# Altium footprint library MOLEX_449140401.PcbLib: 1 footprints
Each footprint in its own frame and in the unit in brackets; x right, y up, seen from the top. Pads: shape width x height; smd on the part's side, far side on the other; paste and mask are expansions set on the pad; w line width, h text height; cw(c..) or ccw(c..) is an arc to the next point about the centre after c.
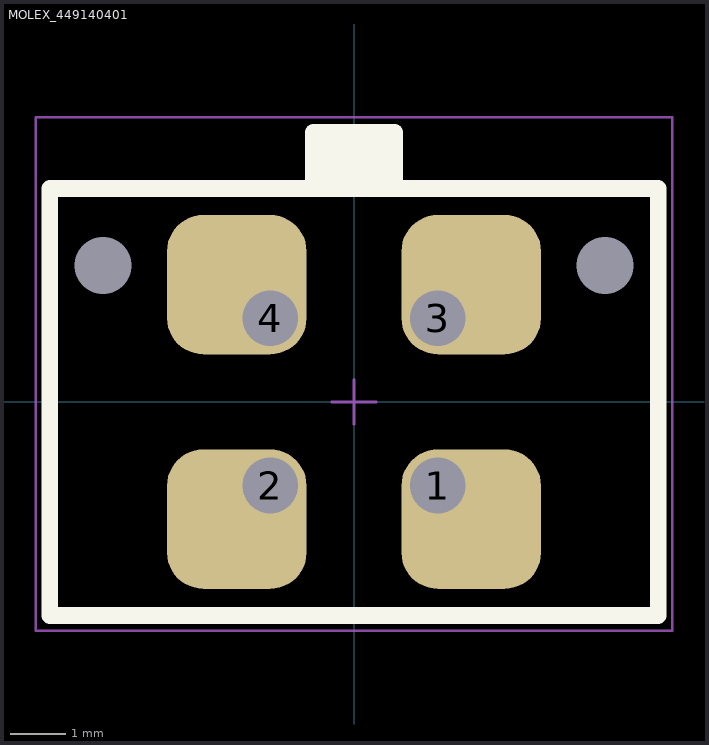
[diagram p0: the footprint, top view; thin cyan lines are the x and y axes]

## MOLEX_449140401 [mm] "MOLEX_449140401"
height 10.16
pads (6):
  rrect52% 2.5x2.5 hole 1 copper offset 0.6,-0.6: 1(1.5,-1.5)
  rrect52% 2.5x2.5 hole 1 copper offset -0.6,-0.6: 2(-1.5,-1.5)
  rrect52% 2.5x2.5 hole 1 copper offset 0.6,0.6: 3(1.5,1.5)
  rrect52% 2.5x2.5 hole 1 copper offset -0.6,0.6: 4(-1.5,1.5)
  round 0 hole 1.02 unplated: ""(-4.5,2.44) ""(4.5,2.44)
Top Overlay:
  rectangle: -0.729,3.825 0.729,4.83
  lines w0.3: -0.729,3.825 -0.729,4.83 0,4.83 0.729,4.83 0.729,3.825 ; -5.45,-3.825 -5.45,3.825 5.45,3.825 5.45,-3.825 -5.45,-3.825
Mechanical 13:
  lines w0.1: -5.45,-3.825 5.45,-3.825 5.45,3.825 -5.45,3.825 -5.45,-3.825
Mechanical 15:
  lines w0.05: -0.4,0 0.4,0 ; 0,-0.4 0,0.4 ; -5.7,-4.1 5.7,-4.1 5.7,5.1 -5.7,5.1 -5.7,-4.1
3D body "MOLEX_449140401.stp": height 10, standoff -3.09, extent -5.075,-3.97 5.075,4.83